# Altium schematic symbol library Sensirion.SchLib: 1 symbol
Pins are listed as number, name and electrical type; pins without a type are passive.

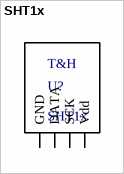
[diagram p0: symbol SHT1x]

## SHT1x
designator U?
SHT10, SHT11, SHT15 T&H sensors
footprint SHT1x
pins: 1 GND, 2 DATA, 3 SCK, 4 Vdd
text: T&H